# EAGLE library part SJ1-353XNS_3MM5-STEREO-AUDIO-JACKS (library df4iah_connector)
SJ1-353XNS_3MM5-STEREO-AUDIO-JACKS
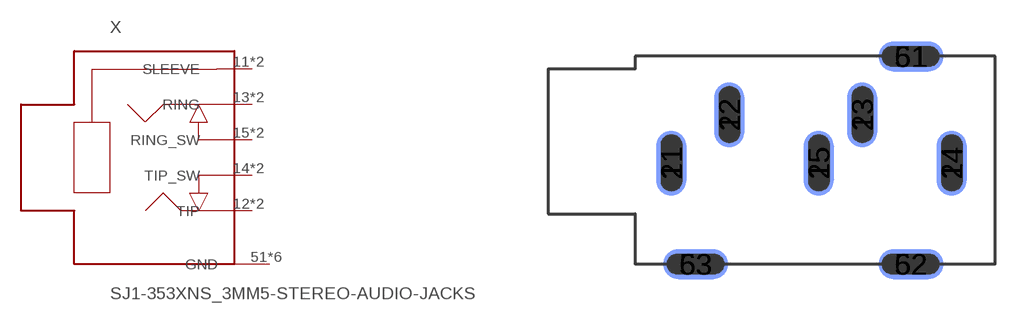
[diagram p19: symbol with the pads of SJ1-353XNS_3MM5-STEREO-AUDIO-JACKS; footprint SJ1-353XNS_3MM5-STEREO-AUDIO-JACKS]

Designator prefix X

## SJ1-353XNS_3MM5-STEREO-AUDIO-JACKS  [SJ1-353XNS_3MM5-STEREO-AUDIO-JACKS]
11  SLEEVE  pas
12  TIP  pas
13  RING  pas
14  TIP_SW  pas
15  RING_SW  pas
21  SLEEVE  pas
22  TIP  pas
23  RING  pas
24  TIP_SW  pas
25  RING_SW  pas
51  GND  pas
52  GND  pas
53  GND  pas
61  GND  pas
62  GND  pas
63  GND  pas

## Footprint SJ1-353XNS_3MM5-STEREO-AUDIO-JACKS (pad centres in mm)
SJ1-353XNS_3MM5-STEREO-AUDIO-JACKS
smd 1.25 x 2.7: 11 -4.532,-0.9; 12 -2.132,1.1; 13 3.368,1.1; 14 7.067,-0.9; 15 1.567,-0.9
smd 1.25 x 2.7 bottom: 21 -4.532,-0.9; 22 -2.132,1.1; 23 3.368,1.1; 24 7.067,-0.9; 25 1.567,-0.9
smd 2.7 x 1.25: 51 5.378,3.514; 52 5.378,-5.086; 53 -3.522,-5.086
smd 2.7 x 1.25 bottom: 61 5.378,3.514; 62 5.378,-5.086; 63 -3.522,-5.086